# EAGLE library part FRSKY-GIMBAL (library RemoteParts)
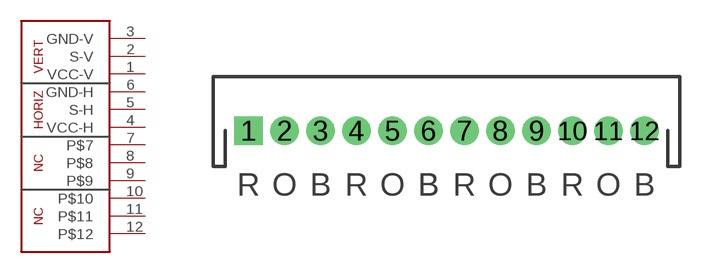
[diagram p0: symbol with the pads of JST-13-PTH; footprint JST-13-PTH]

Designator prefix -

## FRSKY-GIMBAL (DIST: Digikey; DISTPN: A100106-ND)  [JST-13-PTH]
1  VCC-V
2  S-V
3  GND-V
4  VCC-H
5  S-H
6  GND-H
7  P$7
8  P$8
9  P$9
10  P$10
11  P$11
12  P$12

## Footprint JST-13-PTH (pad centres in mm)
drill 0.9 pad 1.6 square: 1 -2,0
drill 0.9 pad 1.6: 2 0,0; 3 2,0; 4 4,0; 5 6,0; 6 8,0; 7 10,0; 8 12,0; 9 14,0; 10 16,0; 11 18,0; 12 20,0